# Altium footprint library CR1216MFRSM.PcbLib: 1 footprints
Each footprint in its own frame and in the unit in brackets; x right, y up, seen from the top. Pads: shape width x height; smd on the part's side, far side on the other; paste and mask are expansions set on the pad; w line width, h text height; cw(c..) or ccw(c..) is an arc to the next point about the centre after c.
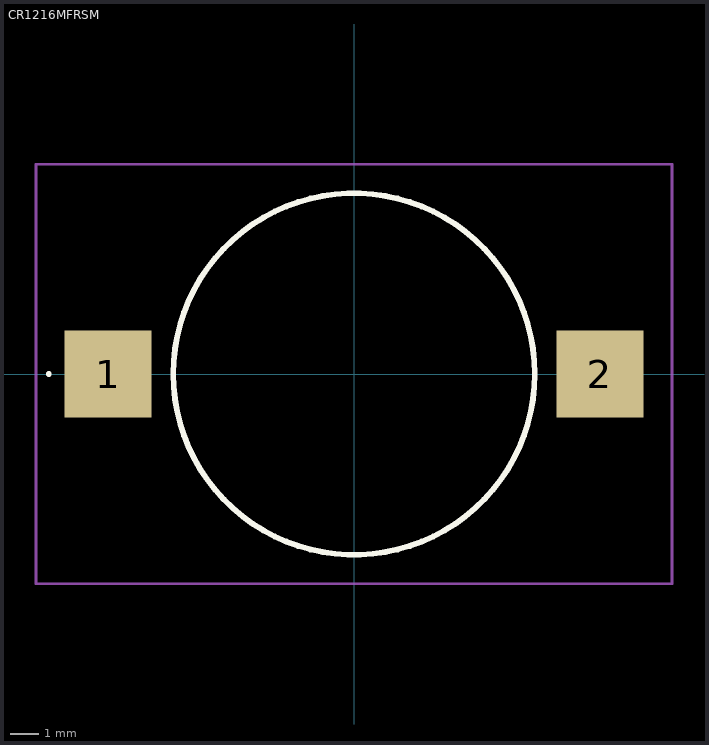
[diagram p0: the footprint, top view; thin cyan lines are the x and y axes]

## CR1216MFRSM [mm]
pads (2):
  rect 3x3 smd: 1(-8.5,0) 2(8.5,0)
Top Overlay:
  lines w0.1: -10.6,0 -10.6,0 ; -10.6,0 ccw(c-10.55,0) -10.5,0 ; -10.6,0 cw(c-10.55,0) -10.5,0 ; -10.5,0 -10.5,0
  lines w0.2: -6.25,0 -6.25,0 ; -6.25,0 ccw(c0,0) 6.25,0 ; -6.25,0 cw(c0,0) 6.25,0 ; 6.25,0 6.25,0
Mechanical 15:
  lines w0.1: -6.25,0 -6.25,0 ; -6.25,0 ccw(c0,0) 6.25,0 ; -6.25,0 cw(c0,0) 6.25,0 ; 6.25,0 6.25,0
Mechanical 20:
  lines w0.1: -11,-7.25 11,-7.25 11,7.25 -11,7.25 -11,-7.25